# EAGLE library part WS2811 (library alvie)
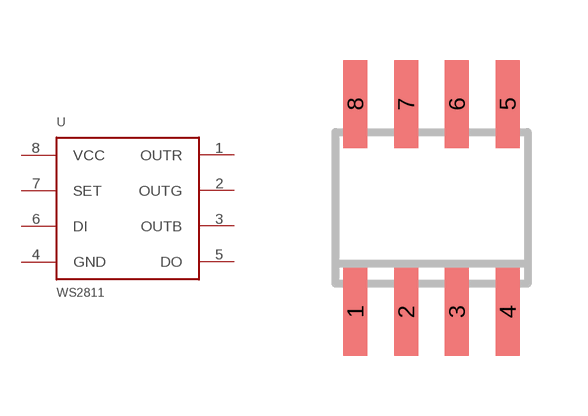
[diagram p57: symbol with the pads of SOIC8; footprint SOIC8]

Designator prefix -

## WS2811  [SOIC8]
1  OUTR  oc
2  OUTG  oc
3  OUTB  oc
4  GND  pwr
5  DO  out
6  DI  in
7  SET  pas
8  VCC  pwr

## Footprint SOIC8 (pad centres in mm)
smd 0.6 x 2.2: 1 -1.905,-2.6; 2 -0.635,-2.6; 3 0.635,-2.6; 4 1.905,-2.6; 5 1.905,2.6; 6 0.635,2.6; 7 -0.635,2.6; 8 -1.905,2.6